# EAGLE library part DS1124U-25+ (library wg_library)
5.0V 8-Bit Programmable Timing Element Source: https://datasheets.maximintegrated.com/en/ds/DS1124.pdf
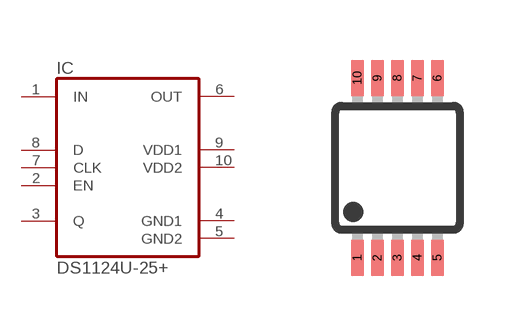
[diagram p7: symbol with the pads of USOP10; footprint USOP10]

Designator prefix IC

## DS1124U-25+  [USOP10]
1  IN  in
2  EN  in
3  Q  out
4  GND1  pwr
5  GND2  pwr
6  OUT  out
7  CLK  in
8  D  in
9  VDD1  pwr
10  VDD2  pwr

## Footprint USOP10 (pad centres in mm)
smd 0.32 x 0.9: 1 -1,-2.25; 2 -0.5,-2.25; 3 0,-2.25; 4 0.5,-2.25; 5 1,-2.25; 6 1,2.25; 7 0.5,2.25; 8 0,2.25; 9 -0.5,2.25; 10 -1,2.25